# Altium footprint library Relay.PcbLib: 20 footprints (part 1 of 2)
Each footprint in its own frame and in the unit in brackets; x right, y up, seen from the top. Pads: shape width x height; smd on the part's side, far side on the other; paste and mask are expansions set on the pad; w line width, h text height; cw(c..) or ccw(c..) is an arc to the next point about the centre after c.
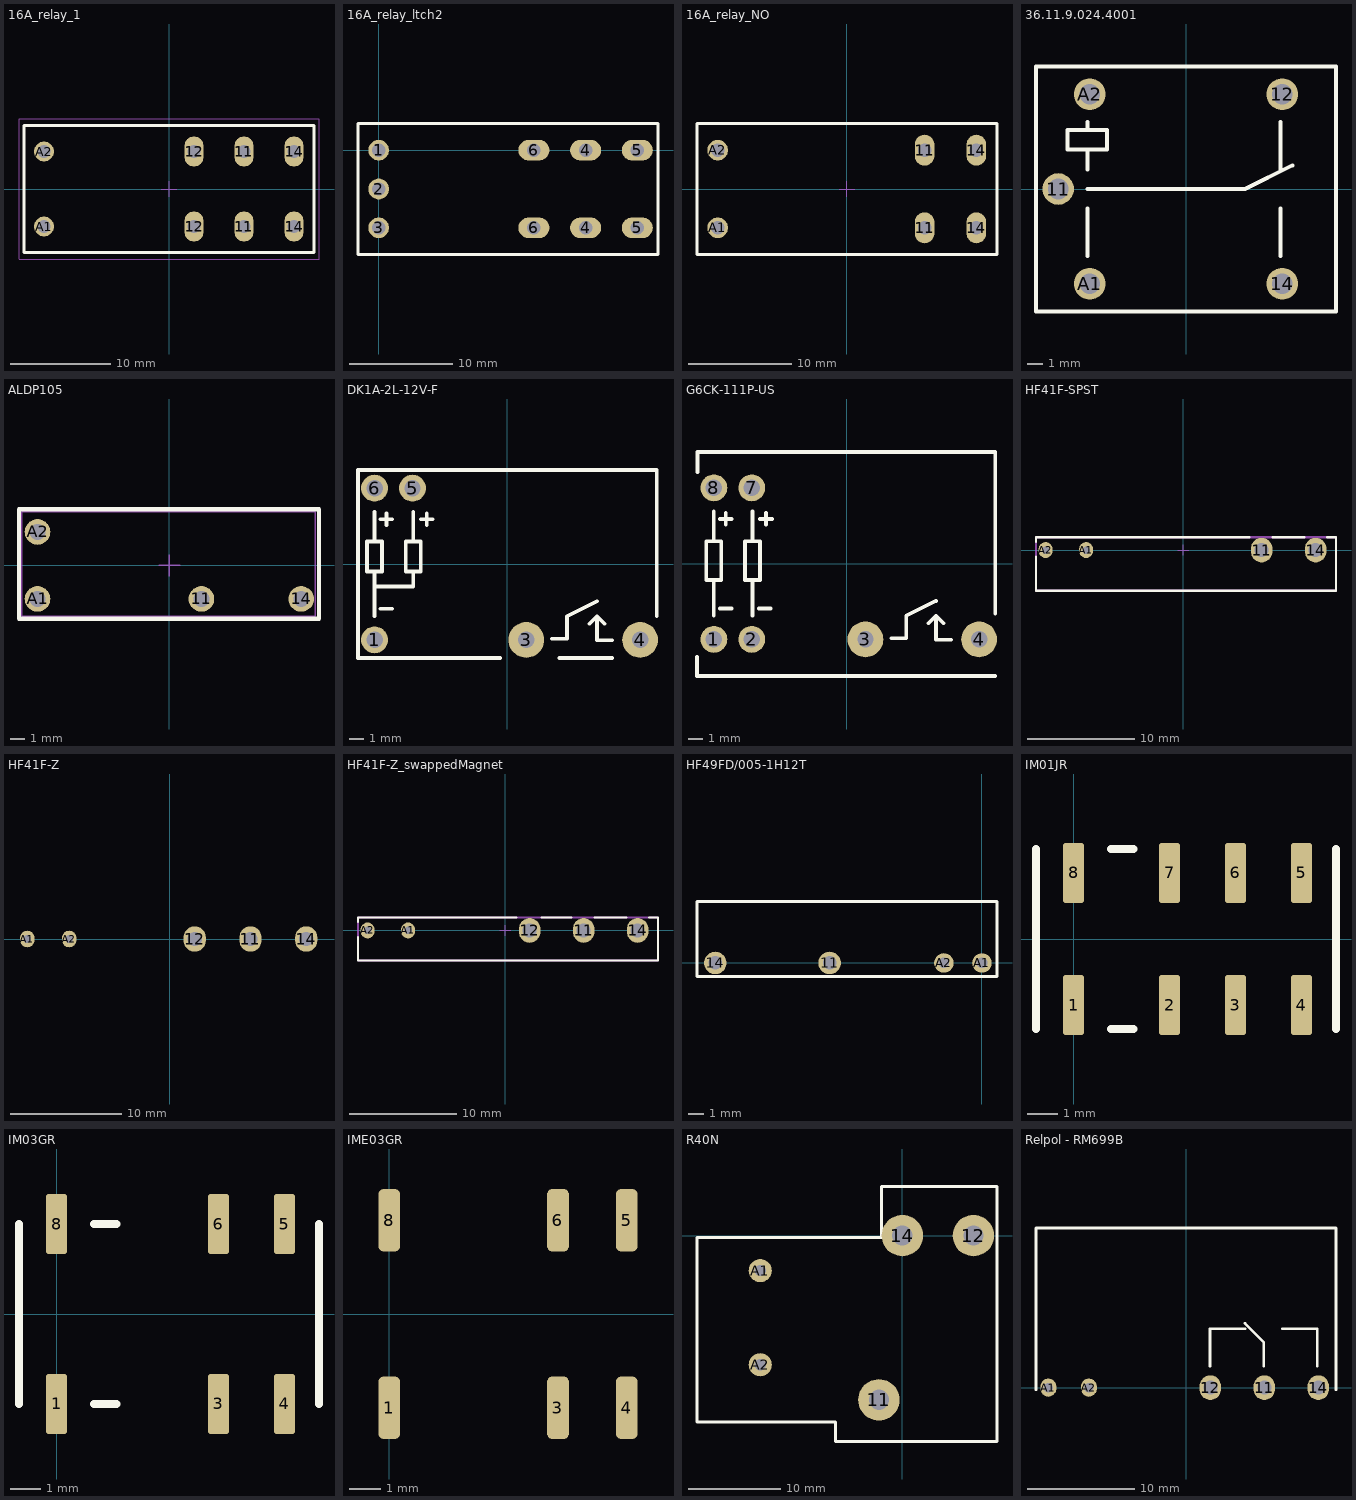
[diagram p0: the footprints below, top view; thin cyan lines are the x and y axes]

## 16A_relay_1 [mm]
pads (8):
  oval 1.9x3 hole 1.3: 11(7.5,-3.75) 11(7.5,3.75) 12(2.5,-3.75) 12(2.5,3.75) 14(12.5,-3.75) 14(12.5,3.75)
  round 2 hole 1.3: A1(-12.5,-3.75) A2(-12.5,3.75)
Top Overlay:
  lines w0.3: -14.5,-6.35 0,-6.35 14.5,-6.35 14.5,0 14.5,6.35 0,6.35 -14.5,6.35 -14.5,-6.35
Mechanical 13:
  lines w0.1: -14.5,6.35 14.5,6.35 14.5,-6.35 ; -14.5,6.35 -14.5,6.35 ; -14.5,6.35 -14.5,6.35 ; -14.5,6.35 -14.5,-6.35 14.5,-6.35 ; 14.5,-6.35 14.5,-6.35 ; 14.5,-6.35 14.5,-6.35
Mechanical 15:
  lines w0.1: -0.75,0 0.75,0 ; 0,-0.75 0,0.75 ; -15,-7 -15,7 15,7 15,-7 -15,-7
3D body: height 15.7, standoff 0, extent -14.5,-6.35 14.5,6.35

## 16A_relay_ltch2 [mm]
pads (9):
  round 2 hole 1.3: 1(0,0) 2(0,-3.75) 3(0,-7.5)
  oval 3x2 hole 1.3: 4(20,-7.5) 4(20,0) 5(25,-7.5) 5(25,0) 6(15,-7.5) 6(15,0)
Top Overlay:
  lines w0.3: -2,-10.1 -2,2.6 12.5,2.6 27,2.6 27,-3.75 27,-10.1 12.5,-10.1 -2,-10.1

## 16A_relay_NO [mm]
pads (6):
  oval 1.9x3 hole 1.3: 11(7.5,-3.75) 11(7.5,3.75) 14(12.5,-3.75) 14(12.5,3.75)
  round 2 hole 1.3: A1(-12.5,-3.75) A2(-12.5,3.75)
Top Overlay:
  lines w0.3: -14.5,-6.35 0,-6.35 14.5,-6.35 14.5,0 14.5,6.35 0,6.35 -14.5,6.35 -14.5,-6.35
Mechanical 13:
  lines w0.1: -14.5,6.35 14.5,6.35 14.5,-6.35 ; -14.5,6.35 -14.5,6.35 ; -14.5,6.35 -14.5,6.35 ; -14.5,6.35 -14.5,-6.35 14.5,-6.35 ; 14.5,-6.35 14.5,-6.35 ; 14.5,-6.35 14.5,-6.35
Mechanical 15:
  lines w0.1: -0.75,0 0.75,0 ; 0,-0.75 0,0.75
3D body: height 15.7, standoff 0, extent -14.5,-6.35 14.5,6.35

## 36.11.9.024.4001 [mm] "Relay Finder 36.11.9.024.4001"
height 16
pads (5):
  round 2 hole 1.3: 11(-8.1,0) 12(6.1,6) 14(6.1,-6) A1(-6.1,-6) A2(-6.1,6)
Top Overlay:
  lines w0.254: -6.25,-4.25 -6.25,-1.25 ; -6.25,0 0,0 3.75,0 6.75,1.5 ; -6.25,1.25 -6.25,2.5 ; -6.25,3.75 -6.25,4.25 ; 6,-4.25 6,-4 6,-1.25 ; 6,1.25 6,4 6,4.25 ; -9.5,-7.75 9.5,-7.75 9.5,7.75 -9.5,7.75 -9.5,-7.75 ; -7.5,2.5 -7.5,3.75 -5,3.75 -5,2.5 -7.5,2.5
3D body: height 16, standoff -1, extent -9.475,-7.775 9.525,7.725

## ALDP105 [mm]
height 15.3
pads (4):
  round 1.8 hole 1.1: 11(2.25,-2.35) 14(9.25,-2.35) A1(-9.25,-2.35) A2(-9.25,2.35)
Top Overlay:
  lines w0.3: -10.55,-3.75 10.5,-3.75 10.5,3.95 -10.55,3.95 -10.55,-3.75
Mechanical 15:
  lines w0.1: -0.75,0 0.75,0 ; 0,-0.75 0,0.75 ; -10.35,-3.55 -10.35,3.75 10.25,3.75 10.25,-3.55 -10.35,-3.55
3D body: height 15.6, standoff 0, extent -10.3,-3.5 10.2,3.7

## DK1A-2L-12V-F [mm] "DK1A-2L-12V-F"
height 10
pads (5):
  round 1.8 hole 1.1: 1(-8.89,-5.08) 5(-6.35,5.08) 6(-8.89,5.08)
  round 2.4 hole 1.1: 3(1.27,-5.08) 4(8.89,-5.08)
Top Overlay:
  lines w0.254: -8.9,-3.5 -8.9,-1.5 ; -8.9,-0.5 -8.9,-1.5 ; -8.9,1.5 -8.9,3.5 ; -8.5,-3 -7.7,-3 ; -8.5,3 -7.7,3 ; -8.1,2.6 -8.1,3.4 ; -6.3,1.5 -6.3,3.5 ; -5.8,3 -5,3 ; -5.4,2.6 -5.4,3.4 ; -0.5,-6.3 -10,-6.3 -10,6.3 10,6.3 10,-3.5 ; 3,-5 4,-5 4,-3.5 6,-2.5 ; 3.5,-6.3 7,-6.3 ; 5.5,-4 6,-3.5 ; 6.5,-4 6,-3.5 ; 7,-5.1 6,-5.1 6,-3.5 ; -8.9,-1.5 -6.3,-1.5 -6.3,-0.5 -5.8,-0.5 ; -5.8,-0.5 -5.8,1.5 -6.8,1.5 -6.8,-0.5 -5.8,-0.5 ; -9.4,-0.5 -9.4,1.5 -8.4,1.5 -8.4,-0.5 -9.4,-0.5
3D body: height 10, standoff -1, extent -10.025,-6.25 9.975,6.25

## G6CK-111P-US [mm] "G6CK-111P-US"
height 10
pads (6):
  round 1.8 hole 1.1: 1(-8.89,-5.08) 2(-6.35,-5.08) 7(-6.35,5.08) 8(-8.89,5.08)
  round 2.4 hole 1.1: 3(1.27,-5.08) 4(8.89,-5.08)
Top Overlay:
  lines w0.254: -10.025,-6.25 -10.025,-7.525 9.975,-7.525 ; -10,6.125 -10,7.475 9.975,7.475 9.975,-3.35 ; -8.9,-3.5 -8.9,-1.5 -8.9,-1.125 ; -8.9,1.5 -8.9,3.5 ; -8.5,-3 -7.7,-3 ; -8.5,3 -7.7,3 ; -8.1,2.6 -8.1,3.4 ; -6.3,-3.5 -6.3,-1.125 ; -6.3,1.5 -6.3,3.5 ; -5.875,-3 -5.075,-3 ; -5.8,3 -5,3 ; -5.4,2.6 -5.4,3.4 ; 3,-5 4,-5 4,-3.5 6,-2.5 ; 5.5,-4 6,-3.5 ; 6.5,-4 6,-3.5 ; 7,-5.1 6,-5.1 6,-3.5 ; -9.4,-1.1 -8.4,-1.1 -8.4,1.5 -9.4,1.5 -9.4,-1.1 ; -6.8,-1.1 -5.8,-1.1 -5.8,1.5 -6.8,1.5 -6.8,-1.1
3D body: height 10, standoff -1, extent -10.025,-7.525 9.975,7.475

## HF41F-SPST [mm] "5mm wide vertical"
pads (4):
  oval 2x2.3 hole 1.3 mask+0.2: 11(7.31,0) 14(12.35,0)
  oval 1.3x1.5 hole 0.7 mask+0.2: A1(-9.07,0) A2(-12.85,0)
Top Overlay:
  lines w0.2: -13.75,-0.6 -13.75,-3.8 14.25,-3.8 14.25,1.2 13.425,1.2 ; -13.75,0.775 -13.75,1.2 1.05,1.2 ; 1,1.2 6.15,1.2 ; 8.325,1.2 11.3,1.2
Mechanical 13:
  lines w0.2: -13.75,-3.8 14.25,-3.8 14.25,1.2 -13.75,1.2 -13.75,-3.8
Mechanical 15:
  lines w0.1: -0.5,0 0.5,0 ; 0,-0.5 0,0.5
3D body: height 15, standoff 0.5, extent -13.75,-3.8 14.25,1.2
3D body: height 0.6, standoff 0, extent -7.775,-3.8 -6.8,1.2
3D body: height 0.6, standoff 0, extent 9.3,-3.8 10.5,1.2

## HF41F-Z [mm] "5mm wide vertical"
pads (5):
  oval 2x2.3 hole 1.3 mask+0.2: 11(7.31,0) 12(2.27,0) 14(12.35,0)
  oval 1.3x1.5 hole 0.7 mask+0.2: A1(-12.85,0) A2(-9.07,0)
3D body: height 0.6, standoff 0, extent 9.3,-2.8 10.5,1.2
3D body: height 0.6, standoff 0, extent -7.775,-2.8 -6.8,1.2
3D body: height 15, standoff 0.5, extent -13.75,-2.8 14.25,1.2

## HF41F-Z_swappedMagnet [mm] "5mm wide vertical"
pads (5):
  oval 2x2.3 hole 1.3 mask+0.2: 11(7.31,0) 12(2.27,0) 14(12.35,0)
  oval 1.3x1.5 hole 0.7 mask+0.2: A1(-9.07,0) A2(-12.85,0)
Top Overlay:
  lines w0.2: -13.75,-0.6 -13.75,-2.8 14.25,-2.8 14.25,1.2 13.425,1.2 ; -13.75,0.775 -13.75,1.2 1.05,1.2 ; 3.4,1.2 6.15,1.2 ; 8.325,1.2 11.3,1.2
Mechanical 13:
  lines w0.2: -13.75,-2.8 -13.75,1.2 14.25,1.2 14.25,-2.8 -13.75,-2.8
Mechanical 15:
  lines w0.1: -0.5,0 0.5,0 ; 0,-0.5 0,0.5
3D body: height 0.6, standoff 0, extent 9.3,-2.8 10.5,1.2
3D body: height 0.6, standoff 0, extent -7.775,-2.8 -6.8,1.2
3D body: height 15, standoff 0.5, extent -13.75,-2.8 14.25,1.2

## HF49FD/005-1H12T [mm] "Hongfa 5mm wide 20mm long relay"
pads (4):
  round 1.5 hole 0.9: 11(-10.16,0) 14(-17.78,0)
  round 1.3 hole 0.7: A1(0,0) A2(-2.54,0)
Top Overlay:
  lines w0.2: -19,-0.9 1,-0.9 1,4.1 -19,4.1 -19,-0.9
3D body: height 12.5, standoff 0, extent -19,-0.9 1,4.1

## IM01JR [mm] "4-1462037-0"
height 5.65
pads (8):
  rrect25% 0.7x2 smd: 1(0,-2.2) 2(3.2,-2.2) 3(5.4,-2.2) 4(7.6,-2.2) 5(7.6,2.2) 6(5.4,2.2) 7(3.2,2.2) 8(0,2.2)
Top Overlay:
  lines w0.254: -1.25,-3 -1.25,3 ; 1.25,-3 2,-3 ; 1.25,3 2,3 ; 8.75,-3 8.75,3
3D body: height 5.65, standoff 0, extent -1.25,-3 8.75,3

## IM03GR [mm] "IM03GR"
height 5.65
pads (6):
  rrect25% 0.7x2 smd: 1(0,-3) 3(5.4,-3) 4(7.6,-3) 5(7.6,3) 6(5.4,3) 8(0,3)
Top Overlay:
  lines w0.254: -1.25,-3 -1.25,3 ; 1.25,-3 2,-3 ; 1.25,3 2,3 ; 8.75,-3 8.75,3
3D body: height 5.65, standoff 0, extent -1.25,-3.75 8.75,3.75

## IME03GR [mm] "IME03GR"
height 5.65
pads (6):
  rrect50% 0.7x2 smd: 1(0,-3) 3(5.4,-3) 4(7.6,-3) 5(7.6,3) 6(5.4,3) 8(0,3)

## R40N [mm] "R40N 40A"
pads (5):
  round 4.5 hole 2.2: 11(-2.54,-17.8) 12(7.7,0) 14(0,0)
  round 2.5 hole 1.2: A1(-15.4,-3.8) A2(-15.4,-14)
Top Overlay:
  lines w0.3: 10.25,0 10.25,5.3 ; 10.25,5.3 10.25,-22.3 -7.25,-22.3 -7.25,-20.2 -22.25,-20.2 -22.25,-0.2 -2.25,-0.2 -2.25,5.3 10.25,5.3
3D body: height 20.5, standoff 0, extent -22.249,-22.299 10.249,5.299

## Relpol - RM699B [mm] "SPDT -RM699B"
height 5
pads (5):
  oval 2x2.3 hole 1.3 mask+0.2: 11(7.31,0) 12(2.27,0) 14(12.35,0)
  oval 1.5x1.7 hole 0.9 mask+0.2: A1(-12.85,0) A2(-9.07,0)
Top Overlay:
  lines w0.254: -14,-0.2 -14,14.9 14,14.9 14,-0.2 ; 2.25,2 2.25,5.5 5.5,5.5 ; 5.5,6 7.25,4.25 7.25,2 ; 9,5.5 12.25,5.5 12.25,2
3D body: height 5, standoff -2.5, extent -14,-0.25 14,14.95